# Altium footprint library IDC_100_2x8_RA.PcbLib: 1 footprints
Each footprint in its own frame and in the unit in brackets; x right, y up, seen from the top. Pads: shape width x height; smd on the part's side, far side on the other; paste and mask are expansions set on the pad; w line width, h text height; cw(c..) or ccw(c..) is an arc to the next point about the centre after c.
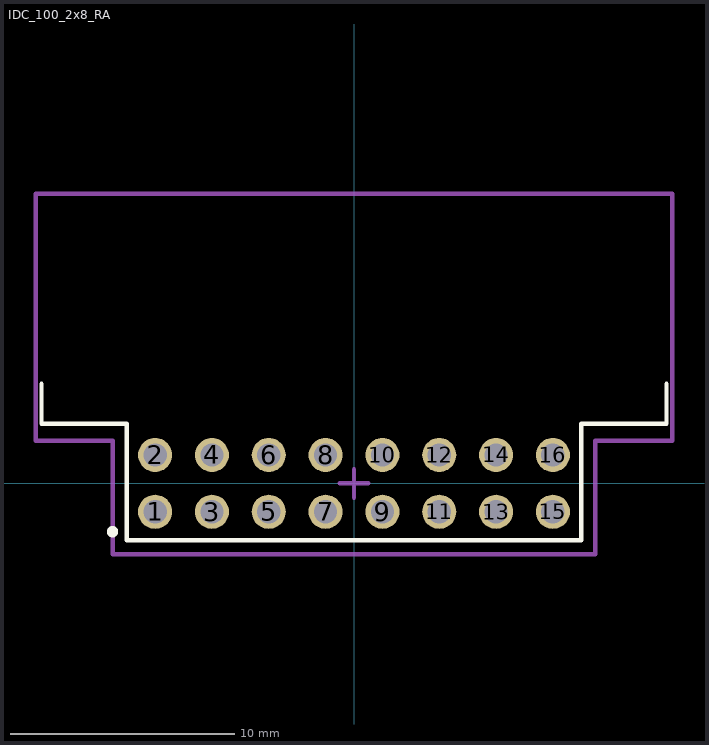
[diagram p0: the footprint, top view; thin cyan lines are the x and y axes]

## IDC_100_2x8_RA [mil]
pads (16):
  round 60 hole 41: 1(-350,-50) 2(-350,50) 3(-250,-50) 4(-250,50) 5(-150,-50) 6(-150,50) 7(-50,-50) 8(-50,50) 9(50,-50) 10(50,50) 11(150,-50) 12(150,50) 13(250,-50) 14(250,50) 15(350,-50) 16(350,50)
Top Overlay:
  circle w10: c-425,-85 r5
  lines w7.87: -550,175 -550,105 -400,105 -400,-100 400,-100 400,105 550,105 550,175
Mechanical 15:
  lines w7.87: -25,0 25,0 ; 0,-25 0,25 ; -560,75 -560,510 560,510 560,75 425,75 425,-125 -425,-125 -425,75 -560,75
3D body "75867103lf.stp": height 366.19, standoff -119.66, extent -541.93,-63 541.93,487